# Altium schematic symbol library mcu_stm32g.SchLib: 5 symbols
Pins are listed as number, name and electrical type; pins without a type are passive.

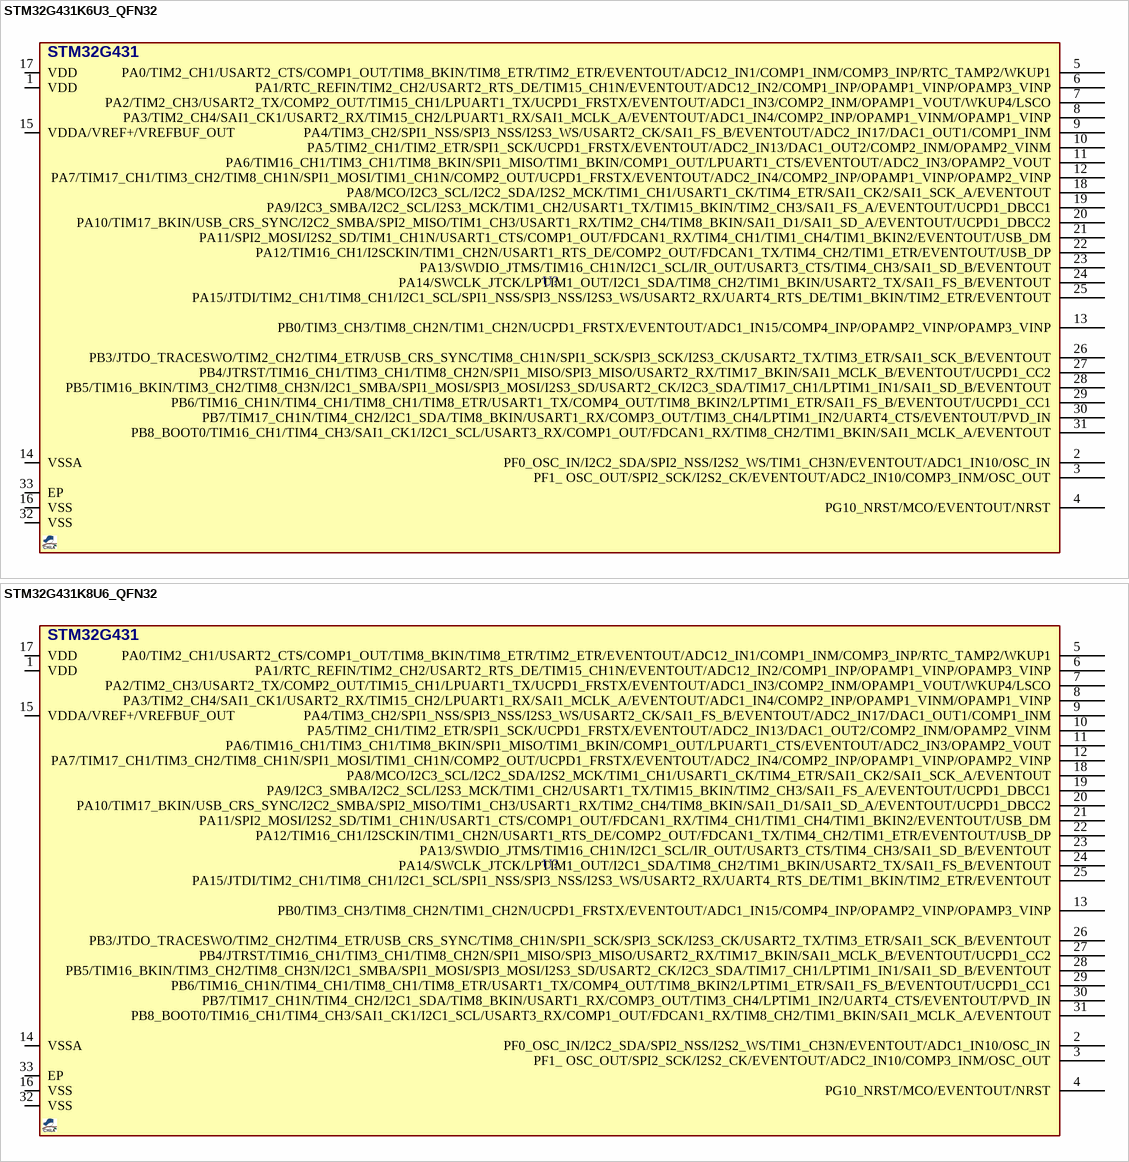
[diagram p0: symbols STM32G431K6U3_QFN32 to STM32G431K8U6_QFN32]

## STM32G431K6U3_QFN32
designator U?, comment STM32G431  (value not drawn)
MCU, STM32 ARM 32-bit, Cortex M4, 32KB FLASH, 32KB SRAM; DESC: 170MHz, CAN, I2C, SPI, USART, USB; MANF: ST; MANF_P#: STM32G431K6U3; PARAM2: 1.7~3.6VCC, 72MHz, 2X16Bit ADC; PARAM: 32KB FLASH, 32KB SRAM, -40~125oC; PRICE: 4$; VALUE: STM32G431
footprint QFN50_32T (UFQFPN32, QFN-32, RGJ, 5X5mm, 0.5mm)
pins: 1 VDD, 2 PF0_OSC_IN/I2C2_SDA/SPI2_NSS/I2S2_WS/TIM1_CH3N/EVENTOUT/ADC1_IN10/OSC_IN, 3 PF1_ OSC_OUT/SPI2_SCK/I2S2_CK/EVENTOUT/ADC2_IN10/COMP3_INM/OSC_OUT, 4 PG10_NRST/MCO/EVENTOUT/NRST, 5 PA0/TIM2_CH1/USART2_CTS/COMP1_OUT/TIM8_BKIN/TIM8_ETR/TIM2_ETR/EVENTOUT/ADC12_IN1/COMP1_INM/COMP3_INP/RTC_TAMP2/WKUP1, 6 PA1/RTC_REFIN/TIM2_CH2/USART2_RTS_DE/TIM15_CH1N/EVENTOUT/ADC12_IN2/COMP1_INP/OPAMP1_VINP/OPAMP3_VINP, 7 PA2/TIM2_CH3/USART2_TX/COMP2_OUT/TIM15_CH1/LPUART1_TX/UCPD1_FRSTX/EVENTOUT/ADC1_IN3/COMP2_INM/OPAMP1_VOUT/WKUP4/LSCO, 8 PA3/TIM2_CH4/SAI1_CK1/USART2_RX/TIM15_CH2/LPUART1_RX/SAI1_MCLK_A/EVENTOUT/ADC1_IN4/COMP2_INP/OPAMP1_VINM/OPAMP1_VINP, 9 PA4/TIM3_CH2/SPI1_NSS/SPI3_NSS/I2S3_WS/USART2_CK/SAI1_FS_B/EVENTOUT/ADC2_IN17/DAC1_OUT1/COMP1_INM, 10 PA5/TIM2_CH1/TIM2_ETR/SPI1_SCK/UCPD1_FRSTX/EVENTOUT/ADC2_IN13/DAC1_OUT2/COMP2_INM/OPAMP2_VINM, 11 PA6/TIM16_CH1/TIM3_CH1/TIM8_BKIN/SPI1_MISO/TIM1_BKIN/COMP1_OUT/LPUART1_CTS/EVENTOUT/ADC2_IN3/OPAMP2_VOUT, 12 PA7/TIM17_CH1/TIM3_CH2/TIM8_CH1N/SPI1_MOSI/TIM1_CH1N/COMP2_OUT/UCPD1_FRSTX/EVENTOUT/ADC2_IN4/COMP2_INP/OPAMP1_VINP/OPAMP2_VINP, 13 PB0/TIM3_CH3/TIM8_CH2N/TIM1_CH2N/UCPD1_FRSTX/EVENTOUT/ADC1_IN15/COMP4_INP/OPAMP2_VINP/OPAMP3_VINP, 14 VSSA, 15 VDDA/VREF+/VREFBUF_OUT, 16 VSS, 17 VDD, 18 PA8/MCO/I2C3_SCL/I2C2_SDA/I2S2_MCK/TIM1_CH1/USART1_CK/TIM4_ETR/SAI1_CK2/SAI1_SCK_A/EVENTOUT, 19 PA9/I2C3_SMBA/I2C2_SCL/I2S3_MCK/TIM1_CH2/USART1_TX/TIM15_BKIN/TIM2_CH3/SAI1_FS_A/EVENTOUT/UCPD1_DBCC1, 20 PA10/TIM17_BKIN/USB_CRS_SYNC/I2C2_SMBA/SPI2_MISO/TIM1_CH3/USART1_RX/TIM2_CH4/TIM8_BKIN/SAI1_D1/SAI1_SD_A/EVENTOUT/UCPD1_DBCC2, 21 PA11/SPI2_MOSI/I2S2_SD/TIM1_CH1N/USART1_CTS/COMP1_OUT/FDCAN1_RX/TIM4_CH1/TIM1_CH4/TIM1_BKIN2/EVENTOUT/USB_DM, 22 PA12/TIM16_CH1/I2SCKIN/TIM1_CH2N/USART1_RTS_DE/COMP2_OUT/FDCAN1_TX/TIM4_CH2/TIM1_ETR/EVENTOUT/USB_DP, 23 PA13/SWDIO_JTMS/TIM16_CH1N/I2C1_SCL/IR_OUT/USART3_CTS/TIM4_CH3/SAI1_SD_B/EVENTOUT, 24 PA14/SWCLK_JTCK/LPTIM1_OUT/I2C1_SDA/TIM8_CH2/TIM1_BKIN/USART2_TX/SAI1_FS_B/EVENTOUT, 25 PA15/JTDI/TIM2_CH1/TIM8_CH1/I2C1_SCL/SPI1_NSS/SPI3_NSS/I2S3_WS/USART2_RX/UART4_RTS_DE/TIM1_BKIN/TIM2_ETR/EVENTOUT, 26 PB3/JTDO_TRACESWO/TIM2_CH2/TIM4_ETR/USB_CRS_SYNC/TIM8_CH1N/SPI1_SCK/SPI3_SCK/I2S3_CK/USART2_TX/TIM3_ETR/SAI1_SCK_B/EVENTOUT, 27 PB4/JTRST/TIM16_CH1/TIM3_CH1/TIM8_CH2N/SPI1_MISO/SPI3_MISO/USART2_RX/TIM17_BKIN/SAI1_MCLK_B/EVENTOUT/UCPD1_CC2, 28 PB5/TIM16_BKIN/TIM3_CH2/TIM8_CH3N/I2C1_SMBA/SPI1_MOSI/SPI3_MOSI/I2S3_SD/USART2_CK/I2C3_SDA/TIM17_CH1/LPTIM1_IN1/SAI1_SD_B/EVENTOUT, 29 PB6/TIM16_CH1N/TIM4_CH1/TIM8_CH1/TIM8_ETR/USART1_TX/COMP4_OUT/TIM8_BKIN2/LPTIM1_ETR/SAI1_FS_B/EVENTOUT/UCPD1_CC1, 30 PB7/TIM17_CH1N/TIM4_CH2/I2C1_SDA/TIM8_BKIN/USART1_RX/COMP3_OUT/TIM3_CH4/LPTIM1_IN2/UART4_CTS/EVENTOUT/PVD_IN, 31 PB8_BOOT0/TIM16_CH1/TIM4_CH3/SAI1_CK1/I2C1_SCL/USART3_RX/COMP1_OUT/FDCAN1_RX/TIM8_CH2/TIM1_BKIN/SAI1_MCLK_A/EVENTOUT, 32 VSS, 33 EP

## STM32G431K8U6_QFN32
designator U?, comment STM32G431  (value not drawn)
MCU, STM32 ARM 32-bit, Cortex M4, 64KB FLASH, 32KB SRAM; DESC: 170MHz, CAN, I2C, SPI, USART, USB; MANF: ST; MANF_P#: STM32G431K8U6; PARAM2: 1.7~3.6VCC, 72MHz, 2X16Bit ADC; PARAM: 64KB FLASH, 32KB SRAM, -40~85oC; PRICE: 4$; VALUE: STM32G431
footprint QFN50_32T (UFQFPN32, QFN-32, RGJ, 5X5mm, 0.5mm)
pins: 1 VDD, 2 PF0_OSC_IN/I2C2_SDA/SPI2_NSS/I2S2_WS/TIM1_CH3N/EVENTOUT/ADC1_IN10/OSC_IN, 3 PF1_ OSC_OUT/SPI2_SCK/I2S2_CK/EVENTOUT/ADC2_IN10/COMP3_INM/OSC_OUT, 4 PG10_NRST/MCO/EVENTOUT/NRST, 5 PA0/TIM2_CH1/USART2_CTS/COMP1_OUT/TIM8_BKIN/TIM8_ETR/TIM2_ETR/EVENTOUT/ADC12_IN1/COMP1_INM/COMP3_INP/RTC_TAMP2/WKUP1, 6 PA1/RTC_REFIN/TIM2_CH2/USART2_RTS_DE/TIM15_CH1N/EVENTOUT/ADC12_IN2/COMP1_INP/OPAMP1_VINP/OPAMP3_VINP, 7 PA2/TIM2_CH3/USART2_TX/COMP2_OUT/TIM15_CH1/LPUART1_TX/UCPD1_FRSTX/EVENTOUT/ADC1_IN3/COMP2_INM/OPAMP1_VOUT/WKUP4/LSCO, 8 PA3/TIM2_CH4/SAI1_CK1/USART2_RX/TIM15_CH2/LPUART1_RX/SAI1_MCLK_A/EVENTOUT/ADC1_IN4/COMP2_INP/OPAMP1_VINM/OPAMP1_VINP, 9 PA4/TIM3_CH2/SPI1_NSS/SPI3_NSS/I2S3_WS/USART2_CK/SAI1_FS_B/EVENTOUT/ADC2_IN17/DAC1_OUT1/COMP1_INM, 10 PA5/TIM2_CH1/TIM2_ETR/SPI1_SCK/UCPD1_FRSTX/EVENTOUT/ADC2_IN13/DAC1_OUT2/COMP2_INM/OPAMP2_VINM, 11 PA6/TIM16_CH1/TIM3_CH1/TIM8_BKIN/SPI1_MISO/TIM1_BKIN/COMP1_OUT/LPUART1_CTS/EVENTOUT/ADC2_IN3/OPAMP2_VOUT, 12 PA7/TIM17_CH1/TIM3_CH2/TIM8_CH1N/SPI1_MOSI/TIM1_CH1N/COMP2_OUT/UCPD1_FRSTX/EVENTOUT/ADC2_IN4/COMP2_INP/OPAMP1_VINP/OPAMP2_VINP, 13 PB0/TIM3_CH3/TIM8_CH2N/TIM1_CH2N/UCPD1_FRSTX/EVENTOUT/ADC1_IN15/COMP4_INP/OPAMP2_VINP/OPAMP3_VINP, 14 VSSA, 15 VDDA/VREF+/VREFBUF_OUT, 16 VSS, 17 VDD, 18 PA8/MCO/I2C3_SCL/I2C2_SDA/I2S2_MCK/TIM1_CH1/USART1_CK/TIM4_ETR/SAI1_CK2/SAI1_SCK_A/EVENTOUT, 19 PA9/I2C3_SMBA/I2C2_SCL/I2S3_MCK/TIM1_CH2/USART1_TX/TIM15_BKIN/TIM2_CH3/SAI1_FS_A/EVENTOUT/UCPD1_DBCC1, 20 PA10/TIM17_BKIN/USB_CRS_SYNC/I2C2_SMBA/SPI2_MISO/TIM1_CH3/USART1_RX/TIM2_CH4/TIM8_BKIN/SAI1_D1/SAI1_SD_A/EVENTOUT/UCPD1_DBCC2, 21 PA11/SPI2_MOSI/I2S2_SD/TIM1_CH1N/USART1_CTS/COMP1_OUT/FDCAN1_RX/TIM4_CH1/TIM1_CH4/TIM1_BKIN2/EVENTOUT/USB_DM, 22 PA12/TIM16_CH1/I2SCKIN/TIM1_CH2N/USART1_RTS_DE/COMP2_OUT/FDCAN1_TX/TIM4_CH2/TIM1_ETR/EVENTOUT/USB_DP, 23 PA13/SWDIO_JTMS/TIM16_CH1N/I2C1_SCL/IR_OUT/USART3_CTS/TIM4_CH3/SAI1_SD_B/EVENTOUT, 24 PA14/SWCLK_JTCK/LPTIM1_OUT/I2C1_SDA/TIM8_CH2/TIM1_BKIN/USART2_TX/SAI1_FS_B/EVENTOUT, 25 PA15/JTDI/TIM2_CH1/TIM8_CH1/I2C1_SCL/SPI1_NSS/SPI3_NSS/I2S3_WS/USART2_RX/UART4_RTS_DE/TIM1_BKIN/TIM2_ETR/EVENTOUT, 26 PB3/JTDO_TRACESWO/TIM2_CH2/TIM4_ETR/USB_CRS_SYNC/TIM8_CH1N/SPI1_SCK/SPI3_SCK/I2S3_CK/USART2_TX/TIM3_ETR/SAI1_SCK_B/EVENTOUT, 27 PB4/JTRST/TIM16_CH1/TIM3_CH1/TIM8_CH2N/SPI1_MISO/SPI3_MISO/USART2_RX/TIM17_BKIN/SAI1_MCLK_B/EVENTOUT/UCPD1_CC2, 28 PB5/TIM16_BKIN/TIM3_CH2/TIM8_CH3N/I2C1_SMBA/SPI1_MOSI/SPI3_MOSI/I2S3_SD/USART2_CK/I2C3_SDA/TIM17_CH1/LPTIM1_IN1/SAI1_SD_B/EVENTOUT, 29 PB6/TIM16_CH1N/TIM4_CH1/TIM8_CH1/TIM8_ETR/USART1_TX/COMP4_OUT/TIM8_BKIN2/LPTIM1_ETR/SAI1_FS_B/EVENTOUT/UCPD1_CC1, 30 PB7/TIM17_CH1N/TIM4_CH2/I2C1_SDA/TIM8_BKIN/USART1_RX/COMP3_OUT/TIM3_CH4/LPTIM1_IN2/UART4_CTS/EVENTOUT/PVD_IN, 31 PB8_BOOT0/TIM16_CH1/TIM4_CH3/SAI1_CK1/I2C1_SCL/USART3_RX/COMP1_OUT/FDCAN1_RX/TIM8_CH2/TIM1_BKIN/SAI1_MCLK_A/EVENTOUT, 32 VSS, 33 EP

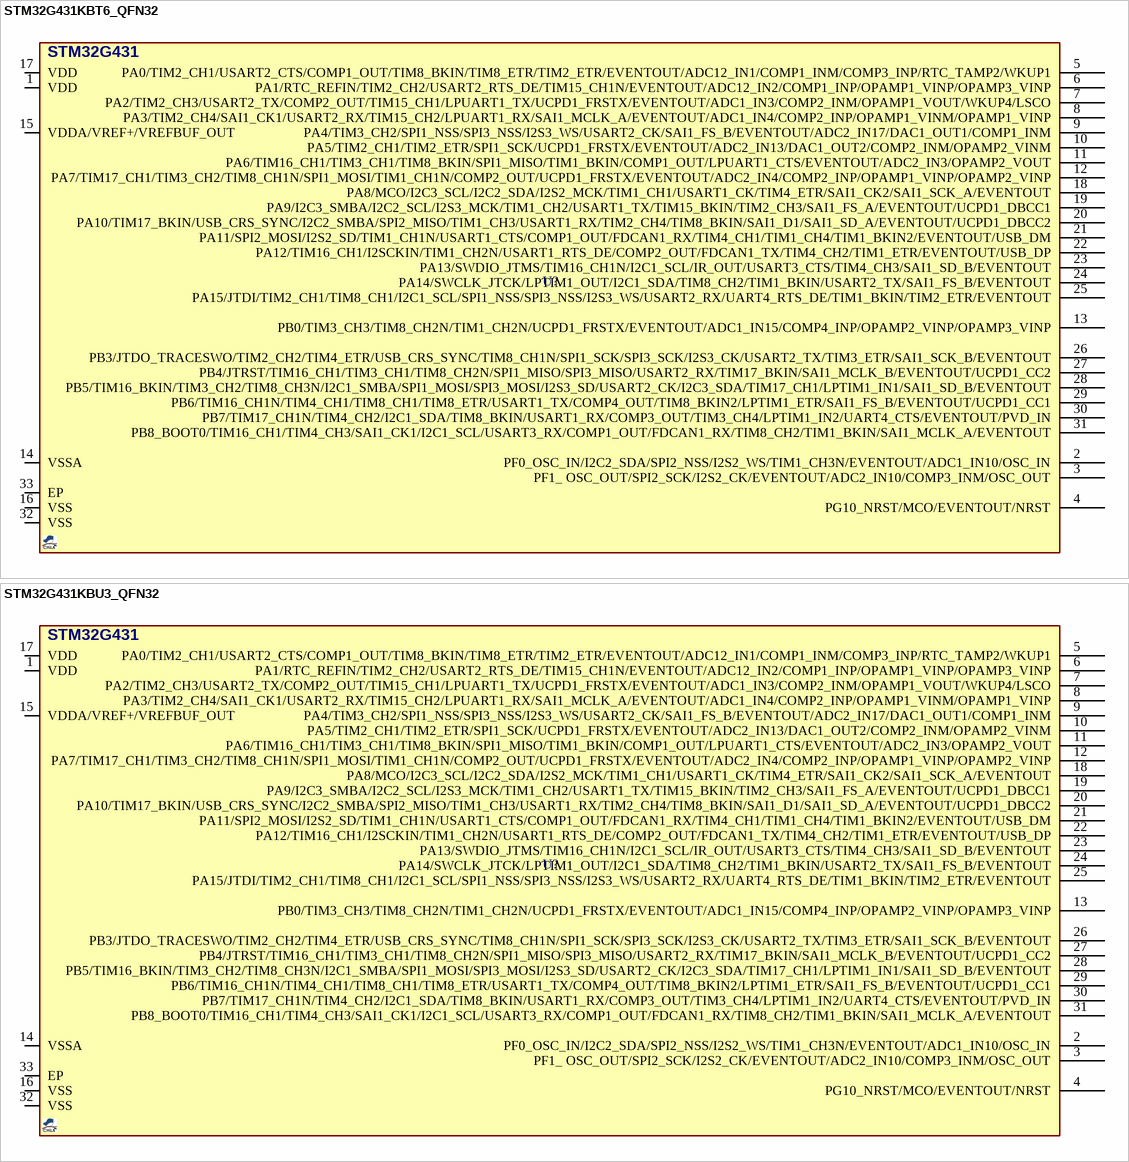
[diagram p1: symbols STM32G431KBT6_QFN32 to STM32G431KBU3_QFN32]

## STM32G431KBT6_QFN32
designator U?, comment STM32G431  (value not drawn)
MCU, STM32 ARM 32-bit, Cortex M4, 128KB FLASH, 32KB SRAM; DESC: 170MHz, CAN, I2C, SPI, USART, USB; MANF: ST; MANF_P#: STM32G431KBT6; PARAM2: 1.7~3.6VCC, 72MHz, 2X16Bit ADC; PARAM: 128KB FLASH, 32KB SRAM, -40~85oC; PRICE: 4$; VALUE: STM32G431
footprint QFG50_32 (PBS TSQFP, 32-Leads, Body 5.00x5.00mm, Pitch 0.50mm)
pins: 1 VDD, 2 PF0_OSC_IN/I2C2_SDA/SPI2_NSS/I2S2_WS/TIM1_CH3N/EVENTOUT/ADC1_IN10/OSC_IN, 3 PF1_ OSC_OUT/SPI2_SCK/I2S2_CK/EVENTOUT/ADC2_IN10/COMP3_INM/OSC_OUT, 4 PG10_NRST/MCO/EVENTOUT/NRST, 5 PA0/TIM2_CH1/USART2_CTS/COMP1_OUT/TIM8_BKIN/TIM8_ETR/TIM2_ETR/EVENTOUT/ADC12_IN1/COMP1_INM/COMP3_INP/RTC_TAMP2/WKUP1, 6 PA1/RTC_REFIN/TIM2_CH2/USART2_RTS_DE/TIM15_CH1N/EVENTOUT/ADC12_IN2/COMP1_INP/OPAMP1_VINP/OPAMP3_VINP, 7 PA2/TIM2_CH3/USART2_TX/COMP2_OUT/TIM15_CH1/LPUART1_TX/UCPD1_FRSTX/EVENTOUT/ADC1_IN3/COMP2_INM/OPAMP1_VOUT/WKUP4/LSCO, 8 PA3/TIM2_CH4/SAI1_CK1/USART2_RX/TIM15_CH2/LPUART1_RX/SAI1_MCLK_A/EVENTOUT/ADC1_IN4/COMP2_INP/OPAMP1_VINM/OPAMP1_VINP, 9 PA4/TIM3_CH2/SPI1_NSS/SPI3_NSS/I2S3_WS/USART2_CK/SAI1_FS_B/EVENTOUT/ADC2_IN17/DAC1_OUT1/COMP1_INM, 10 PA5/TIM2_CH1/TIM2_ETR/SPI1_SCK/UCPD1_FRSTX/EVENTOUT/ADC2_IN13/DAC1_OUT2/COMP2_INM/OPAMP2_VINM, 11 PA6/TIM16_CH1/TIM3_CH1/TIM8_BKIN/SPI1_MISO/TIM1_BKIN/COMP1_OUT/LPUART1_CTS/EVENTOUT/ADC2_IN3/OPAMP2_VOUT, 12 PA7/TIM17_CH1/TIM3_CH2/TIM8_CH1N/SPI1_MOSI/TIM1_CH1N/COMP2_OUT/UCPD1_FRSTX/EVENTOUT/ADC2_IN4/COMP2_INP/OPAMP1_VINP/OPAMP2_VINP, 13 PB0/TIM3_CH3/TIM8_CH2N/TIM1_CH2N/UCPD1_FRSTX/EVENTOUT/ADC1_IN15/COMP4_INP/OPAMP2_VINP/OPAMP3_VINP, 14 VSSA, 15 VDDA/VREF+/VREFBUF_OUT, 16 VSS, 17 VDD, 18 PA8/MCO/I2C3_SCL/I2C2_SDA/I2S2_MCK/TIM1_CH1/USART1_CK/TIM4_ETR/SAI1_CK2/SAI1_SCK_A/EVENTOUT, 19 PA9/I2C3_SMBA/I2C2_SCL/I2S3_MCK/TIM1_CH2/USART1_TX/TIM15_BKIN/TIM2_CH3/SAI1_FS_A/EVENTOUT/UCPD1_DBCC1, 20 PA10/TIM17_BKIN/USB_CRS_SYNC/I2C2_SMBA/SPI2_MISO/TIM1_CH3/USART1_RX/TIM2_CH4/TIM8_BKIN/SAI1_D1/SAI1_SD_A/EVENTOUT/UCPD1_DBCC2, 21 PA11/SPI2_MOSI/I2S2_SD/TIM1_CH1N/USART1_CTS/COMP1_OUT/FDCAN1_RX/TIM4_CH1/TIM1_CH4/TIM1_BKIN2/EVENTOUT/USB_DM, 22 PA12/TIM16_CH1/I2SCKIN/TIM1_CH2N/USART1_RTS_DE/COMP2_OUT/FDCAN1_TX/TIM4_CH2/TIM1_ETR/EVENTOUT/USB_DP, 23 PA13/SWDIO_JTMS/TIM16_CH1N/I2C1_SCL/IR_OUT/USART3_CTS/TIM4_CH3/SAI1_SD_B/EVENTOUT, 24 PA14/SWCLK_JTCK/LPTIM1_OUT/I2C1_SDA/TIM8_CH2/TIM1_BKIN/USART2_TX/SAI1_FS_B/EVENTOUT, 25 PA15/JTDI/TIM2_CH1/TIM8_CH1/I2C1_SCL/SPI1_NSS/SPI3_NSS/I2S3_WS/USART2_RX/UART4_RTS_DE/TIM1_BKIN/TIM2_ETR/EVENTOUT, 26 PB3/JTDO_TRACESWO/TIM2_CH2/TIM4_ETR/USB_CRS_SYNC/TIM8_CH1N/SPI1_SCK/SPI3_SCK/I2S3_CK/USART2_TX/TIM3_ETR/SAI1_SCK_B/EVENTOUT, 27 PB4/JTRST/TIM16_CH1/TIM3_CH1/TIM8_CH2N/SPI1_MISO/SPI3_MISO/USART2_RX/TIM17_BKIN/SAI1_MCLK_B/EVENTOUT/UCPD1_CC2, 28 PB5/TIM16_BKIN/TIM3_CH2/TIM8_CH3N/I2C1_SMBA/SPI1_MOSI/SPI3_MOSI/I2S3_SD/USART2_CK/I2C3_SDA/TIM17_CH1/LPTIM1_IN1/SAI1_SD_B/EVENTOUT, 29 PB6/TIM16_CH1N/TIM4_CH1/TIM8_CH1/TIM8_ETR/USART1_TX/COMP4_OUT/TIM8_BKIN2/LPTIM1_ETR/SAI1_FS_B/EVENTOUT/UCPD1_CC1, 30 PB7/TIM17_CH1N/TIM4_CH2/I2C1_SDA/TIM8_BKIN/USART1_RX/COMP3_OUT/TIM3_CH4/LPTIM1_IN2/UART4_CTS/EVENTOUT/PVD_IN, 31 PB8_BOOT0/TIM16_CH1/TIM4_CH3/SAI1_CK1/I2C1_SCL/USART3_RX/COMP1_OUT/FDCAN1_RX/TIM8_CH2/TIM1_BKIN/SAI1_MCLK_A/EVENTOUT, 32 VSS, 33 EP

## STM32G431KBU3_QFN32
designator U?, comment STM32G431  (value not drawn)
MCU, STM32 ARM 32-bit, Cortex M4, 128KB FLASH, 32KB SRAM; DESC: 170MHz, CAN, I2C, SPI, USART, USB; MANF: ST; MANF_P#: STM32G431KBU6; PARAM2: 1.7~3.6VCC, 72MHz, 2X16Bit ADC; PARAM: 128KB FLASH, 32KB SRAM, -40~125oC; PRICE: 4$; VALUE: STM32G431
footprint QFN50_32T (UFQFPN32, QFN-32, RGJ, 5X5mm, 0.5mm)
pins: 1 VDD, 2 PF0_OSC_IN/I2C2_SDA/SPI2_NSS/I2S2_WS/TIM1_CH3N/EVENTOUT/ADC1_IN10/OSC_IN, 3 PF1_ OSC_OUT/SPI2_SCK/I2S2_CK/EVENTOUT/ADC2_IN10/COMP3_INM/OSC_OUT, 4 PG10_NRST/MCO/EVENTOUT/NRST, 5 PA0/TIM2_CH1/USART2_CTS/COMP1_OUT/TIM8_BKIN/TIM8_ETR/TIM2_ETR/EVENTOUT/ADC12_IN1/COMP1_INM/COMP3_INP/RTC_TAMP2/WKUP1, 6 PA1/RTC_REFIN/TIM2_CH2/USART2_RTS_DE/TIM15_CH1N/EVENTOUT/ADC12_IN2/COMP1_INP/OPAMP1_VINP/OPAMP3_VINP, 7 PA2/TIM2_CH3/USART2_TX/COMP2_OUT/TIM15_CH1/LPUART1_TX/UCPD1_FRSTX/EVENTOUT/ADC1_IN3/COMP2_INM/OPAMP1_VOUT/WKUP4/LSCO, 8 PA3/TIM2_CH4/SAI1_CK1/USART2_RX/TIM15_CH2/LPUART1_RX/SAI1_MCLK_A/EVENTOUT/ADC1_IN4/COMP2_INP/OPAMP1_VINM/OPAMP1_VINP, 9 PA4/TIM3_CH2/SPI1_NSS/SPI3_NSS/I2S3_WS/USART2_CK/SAI1_FS_B/EVENTOUT/ADC2_IN17/DAC1_OUT1/COMP1_INM, 10 PA5/TIM2_CH1/TIM2_ETR/SPI1_SCK/UCPD1_FRSTX/EVENTOUT/ADC2_IN13/DAC1_OUT2/COMP2_INM/OPAMP2_VINM, 11 PA6/TIM16_CH1/TIM3_CH1/TIM8_BKIN/SPI1_MISO/TIM1_BKIN/COMP1_OUT/LPUART1_CTS/EVENTOUT/ADC2_IN3/OPAMP2_VOUT, 12 PA7/TIM17_CH1/TIM3_CH2/TIM8_CH1N/SPI1_MOSI/TIM1_CH1N/COMP2_OUT/UCPD1_FRSTX/EVENTOUT/ADC2_IN4/COMP2_INP/OPAMP1_VINP/OPAMP2_VINP, 13 PB0/TIM3_CH3/TIM8_CH2N/TIM1_CH2N/UCPD1_FRSTX/EVENTOUT/ADC1_IN15/COMP4_INP/OPAMP2_VINP/OPAMP3_VINP, 14 VSSA, 15 VDDA/VREF+/VREFBUF_OUT, 16 VSS, 17 VDD, 18 PA8/MCO/I2C3_SCL/I2C2_SDA/I2S2_MCK/TIM1_CH1/USART1_CK/TIM4_ETR/SAI1_CK2/SAI1_SCK_A/EVENTOUT, 19 PA9/I2C3_SMBA/I2C2_SCL/I2S3_MCK/TIM1_CH2/USART1_TX/TIM15_BKIN/TIM2_CH3/SAI1_FS_A/EVENTOUT/UCPD1_DBCC1, 20 PA10/TIM17_BKIN/USB_CRS_SYNC/I2C2_SMBA/SPI2_MISO/TIM1_CH3/USART1_RX/TIM2_CH4/TIM8_BKIN/SAI1_D1/SAI1_SD_A/EVENTOUT/UCPD1_DBCC2, 21 PA11/SPI2_MOSI/I2S2_SD/TIM1_CH1N/USART1_CTS/COMP1_OUT/FDCAN1_RX/TIM4_CH1/TIM1_CH4/TIM1_BKIN2/EVENTOUT/USB_DM, 22 PA12/TIM16_CH1/I2SCKIN/TIM1_CH2N/USART1_RTS_DE/COMP2_OUT/FDCAN1_TX/TIM4_CH2/TIM1_ETR/EVENTOUT/USB_DP, 23 PA13/SWDIO_JTMS/TIM16_CH1N/I2C1_SCL/IR_OUT/USART3_CTS/TIM4_CH3/SAI1_SD_B/EVENTOUT, 24 PA14/SWCLK_JTCK/LPTIM1_OUT/I2C1_SDA/TIM8_CH2/TIM1_BKIN/USART2_TX/SAI1_FS_B/EVENTOUT, 25 PA15/JTDI/TIM2_CH1/TIM8_CH1/I2C1_SCL/SPI1_NSS/SPI3_NSS/I2S3_WS/USART2_RX/UART4_RTS_DE/TIM1_BKIN/TIM2_ETR/EVENTOUT, 26 PB3/JTDO_TRACESWO/TIM2_CH2/TIM4_ETR/USB_CRS_SYNC/TIM8_CH1N/SPI1_SCK/SPI3_SCK/I2S3_CK/USART2_TX/TIM3_ETR/SAI1_SCK_B/EVENTOUT, 27 PB4/JTRST/TIM16_CH1/TIM3_CH1/TIM8_CH2N/SPI1_MISO/SPI3_MISO/USART2_RX/TIM17_BKIN/SAI1_MCLK_B/EVENTOUT/UCPD1_CC2, 28 PB5/TIM16_BKIN/TIM3_CH2/TIM8_CH3N/I2C1_SMBA/SPI1_MOSI/SPI3_MOSI/I2S3_SD/USART2_CK/I2C3_SDA/TIM17_CH1/LPTIM1_IN1/SAI1_SD_B/EVENTOUT, 29 PB6/TIM16_CH1N/TIM4_CH1/TIM8_CH1/TIM8_ETR/USART1_TX/COMP4_OUT/TIM8_BKIN2/LPTIM1_ETR/SAI1_FS_B/EVENTOUT/UCPD1_CC1, 30 PB7/TIM17_CH1N/TIM4_CH2/I2C1_SDA/TIM8_BKIN/USART1_RX/COMP3_OUT/TIM3_CH4/LPTIM1_IN2/UART4_CTS/EVENTOUT/PVD_IN, 31 PB8_BOOT0/TIM16_CH1/TIM4_CH3/SAI1_CK1/I2C1_SCL/USART3_RX/COMP1_OUT/FDCAN1_RX/TIM8_CH2/TIM1_BKIN/SAI1_MCLK_A/EVENTOUT, 32 VSS, 33 EP

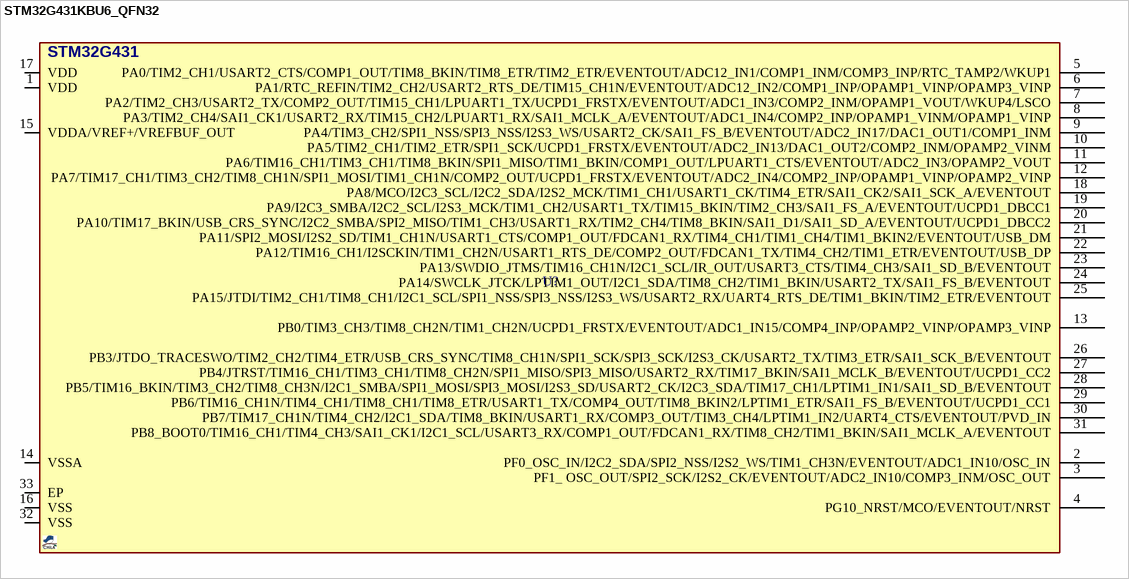
[diagram p2: symbol STM32G431KBU6_QFN32]

## STM32G431KBU6_QFN32
designator U?, comment STM32G431  (value not drawn)
MCU, STM32 ARM 32-bit, Cortex M4, 128KB FLASH, 32KB SRAM; DESC: 170MHz, CAN, I2C, SPI, USART, USB; MANF: ST; MANF_P#: STM32G431KBU6; PARAM2: 1.7~3.6VCC, 72MHz, 2X16Bit ADC; PARAM: 128KB FLASH, 32KB SRAM, -40~85oC; PRICE: 4$; VALUE: STM32G431
footprint QFN50_32T (UFQFPN32, QFN-32, RGJ, 5X5mm, 0.5mm)
pins: 1 VDD, 2 PF0_OSC_IN/I2C2_SDA/SPI2_NSS/I2S2_WS/TIM1_CH3N/EVENTOUT/ADC1_IN10/OSC_IN, 3 PF1_ OSC_OUT/SPI2_SCK/I2S2_CK/EVENTOUT/ADC2_IN10/COMP3_INM/OSC_OUT, 4 PG10_NRST/MCO/EVENTOUT/NRST, 5 PA0/TIM2_CH1/USART2_CTS/COMP1_OUT/TIM8_BKIN/TIM8_ETR/TIM2_ETR/EVENTOUT/ADC12_IN1/COMP1_INM/COMP3_INP/RTC_TAMP2/WKUP1, 6 PA1/RTC_REFIN/TIM2_CH2/USART2_RTS_DE/TIM15_CH1N/EVENTOUT/ADC12_IN2/COMP1_INP/OPAMP1_VINP/OPAMP3_VINP, 7 PA2/TIM2_CH3/USART2_TX/COMP2_OUT/TIM15_CH1/LPUART1_TX/UCPD1_FRSTX/EVENTOUT/ADC1_IN3/COMP2_INM/OPAMP1_VOUT/WKUP4/LSCO, 8 PA3/TIM2_CH4/SAI1_CK1/USART2_RX/TIM15_CH2/LPUART1_RX/SAI1_MCLK_A/EVENTOUT/ADC1_IN4/COMP2_INP/OPAMP1_VINM/OPAMP1_VINP, 9 PA4/TIM3_CH2/SPI1_NSS/SPI3_NSS/I2S3_WS/USART2_CK/SAI1_FS_B/EVENTOUT/ADC2_IN17/DAC1_OUT1/COMP1_INM, 10 PA5/TIM2_CH1/TIM2_ETR/SPI1_SCK/UCPD1_FRSTX/EVENTOUT/ADC2_IN13/DAC1_OUT2/COMP2_INM/OPAMP2_VINM, 11 PA6/TIM16_CH1/TIM3_CH1/TIM8_BKIN/SPI1_MISO/TIM1_BKIN/COMP1_OUT/LPUART1_CTS/EVENTOUT/ADC2_IN3/OPAMP2_VOUT, 12 PA7/TIM17_CH1/TIM3_CH2/TIM8_CH1N/SPI1_MOSI/TIM1_CH1N/COMP2_OUT/UCPD1_FRSTX/EVENTOUT/ADC2_IN4/COMP2_INP/OPAMP1_VINP/OPAMP2_VINP, 13 PB0/TIM3_CH3/TIM8_CH2N/TIM1_CH2N/UCPD1_FRSTX/EVENTOUT/ADC1_IN15/COMP4_INP/OPAMP2_VINP/OPAMP3_VINP, 14 VSSA, 15 VDDA/VREF+/VREFBUF_OUT, 16 VSS, 17 VDD, 18 PA8/MCO/I2C3_SCL/I2C2_SDA/I2S2_MCK/TIM1_CH1/USART1_CK/TIM4_ETR/SAI1_CK2/SAI1_SCK_A/EVENTOUT, 19 PA9/I2C3_SMBA/I2C2_SCL/I2S3_MCK/TIM1_CH2/USART1_TX/TIM15_BKIN/TIM2_CH3/SAI1_FS_A/EVENTOUT/UCPD1_DBCC1, 20 PA10/TIM17_BKIN/USB_CRS_SYNC/I2C2_SMBA/SPI2_MISO/TIM1_CH3/USART1_RX/TIM2_CH4/TIM8_BKIN/SAI1_D1/SAI1_SD_A/EVENTOUT/UCPD1_DBCC2, 21 PA11/SPI2_MOSI/I2S2_SD/TIM1_CH1N/USART1_CTS/COMP1_OUT/FDCAN1_RX/TIM4_CH1/TIM1_CH4/TIM1_BKIN2/EVENTOUT/USB_DM, 22 PA12/TIM16_CH1/I2SCKIN/TIM1_CH2N/USART1_RTS_DE/COMP2_OUT/FDCAN1_TX/TIM4_CH2/TIM1_ETR/EVENTOUT/USB_DP, 23 PA13/SWDIO_JTMS/TIM16_CH1N/I2C1_SCL/IR_OUT/USART3_CTS/TIM4_CH3/SAI1_SD_B/EVENTOUT, 24 PA14/SWCLK_JTCK/LPTIM1_OUT/I2C1_SDA/TIM8_CH2/TIM1_BKIN/USART2_TX/SAI1_FS_B/EVENTOUT, 25 PA15/JTDI/TIM2_CH1/TIM8_CH1/I2C1_SCL/SPI1_NSS/SPI3_NSS/I2S3_WS/USART2_RX/UART4_RTS_DE/TIM1_BKIN/TIM2_ETR/EVENTOUT, 26 PB3/JTDO_TRACESWO/TIM2_CH2/TIM4_ETR/USB_CRS_SYNC/TIM8_CH1N/SPI1_SCK/SPI3_SCK/I2S3_CK/USART2_TX/TIM3_ETR/SAI1_SCK_B/EVENTOUT, 27 PB4/JTRST/TIM16_CH1/TIM3_CH1/TIM8_CH2N/SPI1_MISO/SPI3_MISO/USART2_RX/TIM17_BKIN/SAI1_MCLK_B/EVENTOUT/UCPD1_CC2, 28 PB5/TIM16_BKIN/TIM3_CH2/TIM8_CH3N/I2C1_SMBA/SPI1_MOSI/SPI3_MOSI/I2S3_SD/USART2_CK/I2C3_SDA/TIM17_CH1/LPTIM1_IN1/SAI1_SD_B/EVENTOUT, 29 PB6/TIM16_CH1N/TIM4_CH1/TIM8_CH1/TIM8_ETR/USART1_TX/COMP4_OUT/TIM8_BKIN2/LPTIM1_ETR/SAI1_FS_B/EVENTOUT/UCPD1_CC1, 30 PB7/TIM17_CH1N/TIM4_CH2/I2C1_SDA/TIM8_BKIN/USART1_RX/COMP3_OUT/TIM3_CH4/LPTIM1_IN2/UART4_CTS/EVENTOUT/PVD_IN, 31 PB8_BOOT0/TIM16_CH1/TIM4_CH3/SAI1_CK1/I2C1_SCL/USART3_RX/COMP1_OUT/FDCAN1_RX/TIM8_CH2/TIM1_BKIN/SAI1_MCLK_A/EVENTOUT, 32 VSS, 33 EP